# EAGLE library part TDA1556Q (library Audio-Power-amlifier V.2.0)
2 x 22 W stereo BTL differential amplifier with speaker protection and dynamic distortion detector
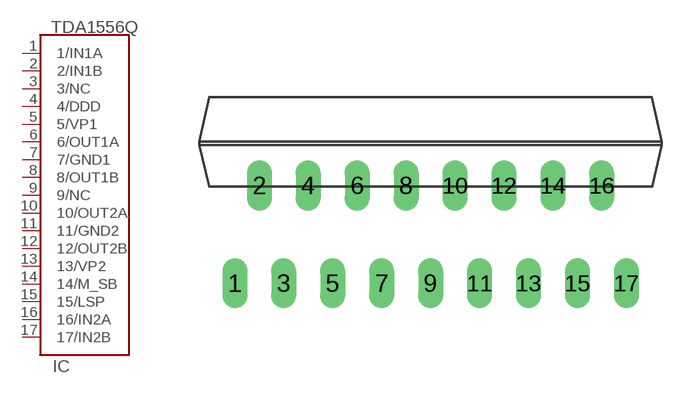
[diagram p229: symbol with the pads of SOT243-1; footprint SOT243-1]

Designator prefix IC

## TDA1556Q  [SOT243-1]
1  1/IN1A  in
2  2/IN1B  in
3  3/NC  nc
4  4/DDD
5  5/VP1  pwr
6  6/OUT1A  out
7  7/GND1  pwr
8  8/OUT1B  out
9  9/NC  nc
10  10/OUT2A  out
11  11/GND2  pwr
12  12/OUT2B  out
13  13/VP2  pwr
14  14/M_SB  in
15  15/LSP
16  16/IN2A  in
17  17/IN2B  in

## Footprint SOT243-1 (pad centres in mm)
DBS17P: plastic DIL-bent-SIL power package; 17 leads (lead length 7.7 mm)
drill 0.8 long: 1 -10.16,-5.08; 2 -8.89,0; 3 -7.62,-5.08; 4 -6.35,0; 5 -5.08,-5.08; 6 -3.81,0; 7 -2.54,-5.08; 8 -1.27,0; 9 0,-5.08; 10 1.27,0; 11 2.54,-5.08; 12 3.81,0; 13 5.08,-5.08; 14 6.35,0; 15 7.62,-5.08; 16 8.89,0; 17 10.17,-5.08